# Altium integrated library TI Power Management Battery Management.IntLib: 949 symbols (part 61 of 62)
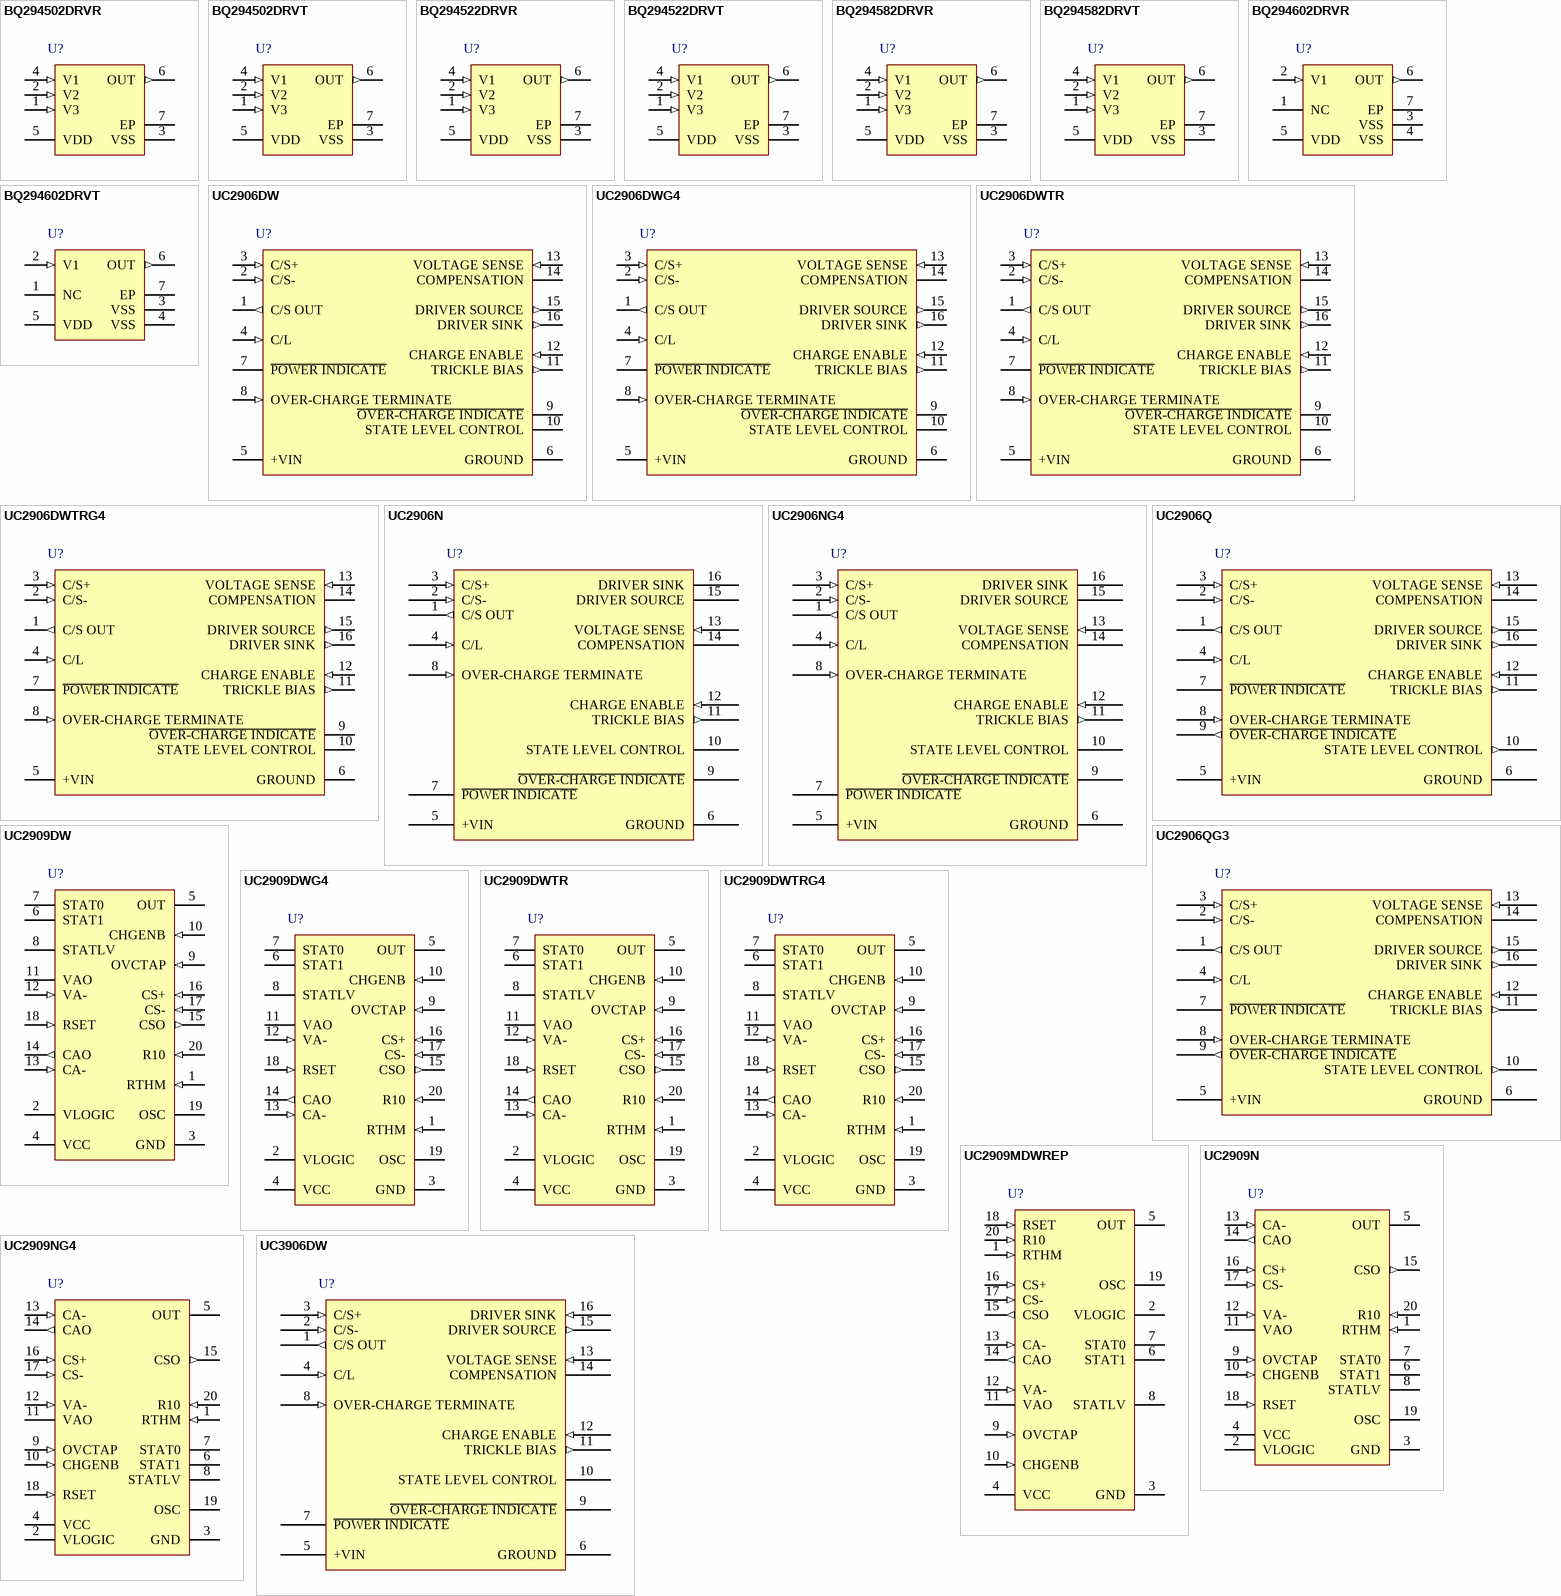
[diagram p94: symbols BQ294502DRVR to UC3906DW]

## UC2909DWG4
designator U?
Switch-Mode Lead-Acid Battery Charger with Differential Current Sense, -40 to 85 degC, 20-pin SOIC (DW), Green (RoHS & no Sb/Br); PartNumber: UC2909DWG4; Manufacturer: Texas Instruments; Lead Acid: Y; Li-Ion: N; SubFamily: Battery Charge Management; PackageVersion: revG, Jan-2011; PackageReference: DW20; PackageDescription: 20-Pin Plastic Small Outline Integrated Circuit, 12.8 x 7.5 mm, Pitch 1.27 mm Pitch; Supplier 1: Digi-Key; Supplier Part Number 1: UC2909DWG4-ND; Supplier 2: Newark; Supplier Part Number 2: 66K4914; Supplier 3: Mouser; Supplier Part Number 3: 595-UC2909DWG4; Eco-Plan: Green (RoHS & no Sb/Br); Li-Polymer: N; NiCd: N; NiMH: N; Over Voltage Protection: N; Mounting Technology: Surface Mount; Code_JEDEC: MS-013-AC; ComponentLink1Description: Datasheet; ComponentLink1URL: http://www.ti.com/general/docs/lit/getliterature.tsp?genericPartNumber=UC2909&fileType=pdf
footprint DW20_N (SOIC, 20-Leads, Body 12.8x7.5mm, Pitch 1.27mm, IPC Medium Density)
footprint DW20_L (SOIC, 20-Leads, Body 12.8x7.5mm, Pitch 1.27mm, IPC High Density)
footprint DW20_M (SOIC, 20-Leads, Body 12.8x7.5mm, Pitch 1.27mm, IPC Low Density)
pins: 1 RTHM (in) "A 10k thermistor is connected to ground and is thermally connected to the battery. The resistance will vary exponentially over temperature and its change is used to vary the internal 2.3V reference by -3.9mV/degreesC. The (See Datasheet)", 2 VLOGIC (power) "The precision reference voltage. It should be bypassed with a 0.1uF capacitor.", 3 GND (power) "The reference point for the internal reference, all thresholds, and the return for the remainder of the device. The output sink transistor is wired directly to this pin.", 4 VCC (power) "The input voltage to the chip. The chip is operational between 7.5V and 40V and should be bypassed with a 1uF capacitor. A typical ICC vs. temperature is shown in Figure 1.", 5 OUT (power) "The output of the PWM driver which consists of  an open collector output transistor with 100mA sink capability.", 6 STAT1 (oc) "This open collector pin is the second decode bit sed to decode the charge states.", 7 STAT0 (oc) "This open collector pin is the first decode bit used to decode the charge states.", 8 STATLV (oc) "This bit is high when the charger is in the float state.", 9 OVCTAP (in) "The overcharge current taper pin detects when the output current has tapered to the float threshold in the overcharge state.", 10 CHGENB (in) "The input to a comparator that detects when battery voltage is low and places the charger in a trickle charge state. The charge enable comparator makes the output of the voltage error amplifier a high impedance while forcing (See Datasheet)", 11 VAO (hiz) "The output of the voltage error amplifier. The upper output clamp voltage of this amplifier is 5V.", 12 VA- (in) "The inverting input to the voltage error amplifier.", 13 CA- (in) "The inverting input to the current error amplifier.", 14 CAO (out) "The output of the current error amplifier which is internally clamped to approximately 4V. It is internally connected to the inverting input of the PWM comparator.", 15 CSO (out) "The output of the current sense amplifier which is internally clamped to approximately 5.7V.", 16 CS+ (in) "The inverting and non-inverting inputs to the current sense amplifier. This amplifier has a fixed gain of five and a common-mode voltage range of from -250mV to +VCC.", 17 CS- (in) "The inverting and non-inverting inputs to the current sense amplifier. This amplifier has a fixed gain of five and a common-mode voltage range of from -250mV to +VCC.", 18 RSET (in) "A resistor to ground programs the oscillator charge current and the trickle control current for the oscillator ramp.The oscillator charge current is approximately 1.75 / RSET. The trickle control current (ITRCK_CONTROL) is (See Datasheet)", 19 OSC "The oscillator ramp pin which has a capacitor (CT) to ground. The ramp oscillates between approximately 1.0V to 3.0V and the frequency is approximated by:frequency=1 / (1.2*CT*Rset)", 20 R10 (in) "Input used to establish a differential voltage corresponding to the temperature of the thermistor. Connect a 10k resistor to ground from this point."

## UC2909DWTR
designator U?
Switch-Mode Lead-Acid Battery Charger with Differential Current Sense, -40 to 85 degC, 20-pin SOIC (DW), Green (RoHS & no Sb/Br); PartNumber: UC2909DWTR; Manufacturer: Texas Instruments; Lead Acid: Y; Li-Ion: N; SubFamily: Battery Charge Management; PackageVersion: revG, Jan-2011; PackageReference: DW20; PackageDescription: 20-Pin Plastic Small Outline Integrated Circuit, 12.8 x 7.5 mm, Pitch 1.27 mm Pitch; Supplier 1: Digi-Key; Supplier Part Number 1: UC2909DWTR-ND; Supplier 2: Newark; Supplier Part Number 2: 77C3104; Supplier 3: Mouser; Supplier Part Number 3: 595-UC2909DWTR; Eco-Plan: Green (RoHS & no Sb/Br); Li-Polymer: N; NiCd: N; NiMH: N; Over Voltage Protection: N; Mounting Technology: Surface Mount; Code_JEDEC: MS-013-AC; ComponentLink1Description: Datasheet; ComponentLink1URL: http://www.ti.com/general/docs/lit/getliterature.tsp?genericPartNumber=UC2909&fileType=pdf
footprint DW20_N (SOIC, 20-Leads, Body 12.8x7.5mm, Pitch 1.27mm, IPC Medium Density)
footprint DW20_L (SOIC, 20-Leads, Body 12.8x7.5mm, Pitch 1.27mm, IPC High Density)
footprint DW20_M (SOIC, 20-Leads, Body 12.8x7.5mm, Pitch 1.27mm, IPC Low Density)
pins: 1 RTHM (in) "A 10k thermistor is connected to ground and is thermally connected to the battery. The resistance will vary exponentially over temperature and its change is used to vary the internal 2.3V reference by -3.9mV/degreesC. The (See Datasheet)", 2 VLOGIC (power) "The precision reference voltage. It should be bypassed with a 0.1uF capacitor.", 3 GND (power) "The reference point for the internal reference, all thresholds, and the return for the remainder of the device. The output sink transistor is wired directly to this pin.", 4 VCC (power) "The input voltage to the chip. The chip is operational between 7.5V and 40V and should be bypassed with a 1uF capacitor. A typical ICC vs. temperature is shown in Figure 1.", 5 OUT (power) "The output of the PWM driver which consists of  an open collector output transistor with 100mA sink capability.", 6 STAT1 (oc) "This open collector pin is the second decode bit sed to decode the charge states.", 7 STAT0 (oc) "This open collector pin is the first decode bit used to decode the charge states.", 8 STATLV (oc) "This bit is high when the charger is in the float state.", 9 OVCTAP (in) "The overcharge current taper pin detects when the output current has tapered to the float threshold in the overcharge state.", 10 CHGENB (in) "The input to a comparator that detects when battery voltage is low and places the charger in a trickle charge state. The charge enable comparator makes the output of the voltage error amplifier a high impedance while forcing (See Datasheet)", 11 VAO (hiz) "The output of the voltage error amplifier. The upper output clamp voltage of this amplifier is 5V.", 12 VA- (in) "The inverting input to the voltage error amplifier.", 13 CA- (in) "The inverting input to the current error amplifier.", 14 CAO (out) "The output of the current error amplifier which is internally clamped to approximately 4V. It is internally connected to the inverting input of the PWM comparator.", 15 CSO (out) "The output of the current sense amplifier which is internally clamped to approximately 5.7V.", 16 CS+ (in) "The inverting and non-inverting inputs to the current sense amplifier. This amplifier has a fixed gain of five and a common-mode voltage range of from -250mV to +VCC.", 17 CS- (in) "The inverting and non-inverting inputs to the current sense amplifier. This amplifier has a fixed gain of five and a common-mode voltage range of from -250mV to +VCC.", 18 RSET (in) "A resistor to ground programs the oscillator charge current and the trickle control current for the oscillator ramp.The oscillator charge current is approximately 1.75 / RSET. The trickle control current (ITRCK_CONTROL) is (See Datasheet)", 19 OSC "The oscillator ramp pin which has a capacitor (CT) to ground. The ramp oscillates between approximately 1.0V to 3.0V and the frequency is approximated by:frequency=1 / (1.2*CT*Rset)", 20 R10 (in) "Input used to establish a differential voltage corresponding to the temperature of the thermistor. Connect a 10k resistor to ground from this point."

## UC2909DWTRG4
designator U?
Switch-Mode Lead-Acid Battery Charger with Differential Current Sense, -40 to 85 degC, 20-pin SOIC (DW), Green (RoHS & no Sb/Br); PartNumber: UC2909DWTRG4; Manufacturer: Texas Instruments; Lead Acid: Y; Li-Ion: N; SubFamily: Battery Charge Management; PackageVersion: revG, Jan-2011; PackageReference: DW20; PackageDescription: 20-Pin Plastic Small Outline Integrated Circuit, 12.8 x 7.5 mm, Pitch 1.27 mm Pitch; Supplier 1: Digi-Key; Supplier Part Number 1: UC2909DWTRG4-ND; Supplier 2: Newark; Supplier Part Number 2: 54K2298; Supplier 3: Mouser; Supplier Part Number 3: 595-UC2909DWTRG4; Eco-Plan: Green (RoHS & no Sb/Br); Li-Polymer: N; NiCd: N; NiMH: N; Over Voltage Protection: N; Mounting Technology: Surface Mount; Code_JEDEC: MS-013-AC; ComponentLink1Description: Datasheet; ComponentLink1URL: http://www.ti.com/general/docs/lit/getliterature.tsp?genericPartNumber=UC2909&fileType=pdf
footprint DW20_N (SOIC, 20-Leads, Body 12.8x7.5mm, Pitch 1.27mm, IPC Medium Density)
footprint DW20_L (SOIC, 20-Leads, Body 12.8x7.5mm, Pitch 1.27mm, IPC High Density)
footprint DW20_M (SOIC, 20-Leads, Body 12.8x7.5mm, Pitch 1.27mm, IPC Low Density)
pins: 1 RTHM (in) "A 10k thermistor is connected to ground and is thermally connected to the battery. The resistance will vary exponentially over temperature and its change is used to vary the internal 2.3V reference by -3.9mV/degreesC. The (See Datasheet)", 2 VLOGIC (power) "The precision reference voltage. It should be bypassed with a 0.1uF capacitor.", 3 GND (power) "The reference point for the internal reference, all thresholds, and the return for the remainder of the device. The output sink transistor is wired directly to this pin.", 4 VCC (power) "The input voltage to the chip. The chip is operational between 7.5V and 40V and should be bypassed with a 1uF capacitor. A typical ICC vs. temperature is shown in Figure 1.", 5 OUT (power) "The output of the PWM driver which consists of  an open collector output transistor with 100mA sink capability.", 6 STAT1 (oc) "This open collector pin is the second decode bit sed to decode the charge states.", 7 STAT0 (oc) "This open collector pin is the first decode bit used to decode the charge states.", 8 STATLV (oc) "This bit is high when the charger is in the float state.", 9 OVCTAP (in) "The overcharge current taper pin detects when the output current has tapered to the float threshold in the overcharge state.", 10 CHGENB (in) "The input to a comparator that detects when battery voltage is low and places the charger in a trickle charge state. The charge enable comparator makes the output of the voltage error amplifier a high impedance while forcing (See Datasheet)", 11 VAO (hiz) "The output of the voltage error amplifier. The upper output clamp voltage of this amplifier is 5V.", 12 VA- (in) "The inverting input to the voltage error amplifier.", 13 CA- (in) "The inverting input to the current error amplifier.", 14 CAO (out) "The output of the current error amplifier which is internally clamped to approximately 4V. It is internally connected to the inverting input of the PWM comparator.", 15 CSO (out) "The output of the current sense amplifier which is internally clamped to approximately 5.7V.", 16 CS+ (in) "The inverting and non-inverting inputs to the current sense amplifier. This amplifier has a fixed gain of five and a common-mode voltage range of from -250mV to +VCC.", 17 CS- (in) "The inverting and non-inverting inputs to the current sense amplifier. This amplifier has a fixed gain of five and a common-mode voltage range of from -250mV to +VCC.", 18 RSET (in) "A resistor to ground programs the oscillator charge current and the trickle control current for the oscillator ramp.The oscillator charge current is approximately 1.75 / RSET. The trickle control current (ITRCK_CONTROL) is (See Datasheet)", 19 OSC "The oscillator ramp pin which has a capacitor (CT) to ground. The ramp oscillates between approximately 1.0V to 3.0V and the frequency is approximated by:frequency=1 / (1.2*CT*Rset)", 20 R10 (in) "Input used to establish a differential voltage corresponding to the temperature of the thermistor. Connect a 10k resistor to ground from this point."

## UC2909MDWREP
designator U?
Enhanced Product Switch-Mode Lead-Acid Battery Charger with Differential Current Sense, -55 to 125 degC, 20-pin SOIC (DW), Green (RoHS & no Sb/Br); PartNumber: UC2909MDWREP; Manufacturer: Texas Instruments; Lead Acid: Y; Li-Ion: N; SubFamily: 6Battery Charge Management; DatasheetVersion: SLUSA72; PackageVersion: revG, Jan-2011; PackageReference: DW20; PackageDescription: 20-Pin Plastic Small Outline Integrated Circuit, 12.8 x 7.5 mm, Pitch 1.27 mm Pitch; Supplier 1: Digi-Key; Supplier Part Number 1: 296-27721-2-ND; Supplier 2: Digi-Key; Supplier Part Number 2: 296-27721-1-ND; Supplier 3: Digi-Key; Supplier Part Number 3: 296-27721-6-ND; Supplier 4: Newark; Supplier Part Number 4: 12T2261; Supplier 5: Mouser; Supplier Part Number 5: 595-UC2909MDWREP; Eco-Plan: Green (RoHS & no Sb/Br); Li-Polymer: N; NiCd: N; NiMH: N; Over Voltage Protection: N; Mounting Technology: Surface Mount; Code_JEDEC: MS-013-AC; ComponentLink1Description: Datasheet; ComponentLink1URL: http://www.ti.com/general/docs/lit/getliterature.tsp?genericPartNumber=UC2909-EP&fileType=pdf
footprint DW20_N (SOIC, 20-Leads, Body 12.8x7.5mm, Pitch 1.27mm, IPC Medium Density)
footprint DW20_L (SOIC, 20-Leads, Body 12.8x7.5mm, Pitch 1.27mm, IPC High Density)
footprint DW20_M (SOIC, 20-Leads, Body 12.8x7.5mm, Pitch 1.27mm, IPC Low Density)
pins: 1 RTHM (in) "A 10-K ohm thermistor is connected to ground and is thermally connected to the battery. The resistance will vary exponentially over temperature and its change is used to vary the internal 2.3-V reference by -3.9 mV/degC. The (See Datasheet)", 2 VLOGIC (power) "The precision reference voltage. It should be bypassed with a 0.1-uF capacitor.", 3 GND (power) "The reference point for the internal reference, all thresholds, and the return for the remainder of the device.The output sink transistor is wired directly to this pin.", 4 VCC (power) "The input voltage to the chip. The chip is operational between 7.5 V and 40 V and should be bypassed with a 1-uF capacitor. A typical ICC vs. temperature is shown in Figure 1.", 5 OUT (power) "The output of the PWM driver which consists of an open collector output transistor with 100-mA sink capability.", 6 STAT1 (oc) "This open collector pin is the second decode bit used to decode the charge states.", 7 STAT0 (oc) "This open collector pin is the first decode bit used to decode the charge states.", 8 STATLV (oc) "This bit is high when the charger is in the float state.", 9 OVCTAP (in) "The overcharge current taper pin detects when the output current has tapered to the float threshold in the overcharge state.", 10 CHGENB (in) "The input to a comparator that detects when battery voltage is low and places the charger in a trickle charge state. The charge enable comparator makes the output of the voltage error amplifier a high impedance while forcing (See Datasheet)", 11 VAO (hiz) "The output of the voltage error amplifier. The upper output clamp voltage of this amplifier is 5 V.", 12 VA- (in) "The inverting input to the voltage error amplifier.", 13 CA- (in) "The inverting input to the current error amplifier.", 14 CAO (out) "The output of the current error amplifier which is internally clamped to approximately 4 V. It is internally connected to the inverting input of the PWM comparator.", 15 CSO (out) "The output of the current sense amplifier which is internally clamped to approximately 5.7 V.", 16 CS+ (in) "The inverting and non-inverting inputs to the current sense amplifier. This amplifier has a fixed gain of five and a common-mode voltage range of from -250 mV to VCC.", 17 CS- (in) "The inverting and non-inverting inputs to the current sense amplifier. This amplifier has a fixed gain of five and a common-mode voltage range of from -250 mV to VCC.", 18 RSET (in) "A resistor to ground programs the oscillator charge current and the trickle control current for the oscillator ramp.", 19 OSC "The oscillator ramp pin which has a capacitor (CT) to ground. The ramp oscillates between approximately 1 V to 3 V and the frequency is approximated by:", 20 R10 (in) "Input used to establish a differential voltage corresponding to the temperature of the thermistor. Connect a 10-K ohm resistor to ground from this point."

## UC2909N
designator U?
Switch-Mode Lead-Acid Battery Charger with Differential Current Sense, -40 to 85 degC, 20-pin PDIP (N), Green (RoHS & no Sb/Br); PartNumber: UC2909N; Manufacturer: Texas Instruments; Lead Acid: Y; SubFamily: Battery Charge Management; PackageVersion: revE, Dec-2002; PackageReference: N20; PackageDescription: 20-Pin Plastic Dual-In-Line Package, Row Spacing 7.62 mm, Pitch 2.54 mm; Supplier 1: Digi-Key; Supplier Part Number 1: 296-2229-5-ND; Supplier 2: Newark; Supplier Part Number 2: 77C3105; Supplier 3: Mouser; Supplier Part Number 3: 595-UC2909N; Eco-Plan: Green (RoHS & no Sb/Br); Li-Ion: N; Li-Polymer: N; NiCd: N; NiMH: N; Over Voltage Protection: N; Mounting Technology: Through Hole; Code_JEDEC: MS-001-AC*; ComponentLink1Description: Datasheet; ComponentLink1URL: http://www.ti.com/general/docs/lit/getliterature.tsp?genericPartNumber=UC2909&fileType=pdf
footprint N20 (DIP, 20-Leads, Row Spacing 7.62mm, Pitch 2.54mm, Body 25.4x6.4mm)
pins: 1 RTHM (in) "A 10k thermistor is thermally connected to the battery. The resistance will connected to ground and is vary exponentially over temperature and its change is used to vary the internal 2.3V reference by -3.9mV/degreesC.The (See Datasheet)", 2 VLOGIC (power) "The precision reference voltage. It should be bypassed with a 0.1uF capacitor.", 3 GND (power) "The reference point for the internal reference, all thresholds, and the return for the remainder of the device. The output sink transistor is wired directly to this pin.", 4 VCC (power) "The input voltage to the chip. The chip is operational between 7.5V and 40V and should be bypassed with a 1uF capacitor. A typical ICC vs. temperature is shown in Figure 1.", 5 OUT (power) "The output of the PWM driver which consists of an open collector output transistor with 100mA sink capability.", 6 STAT1 (oc) "This open collector pin is the first decode bit used to decode the charge states.", 7 STAT0 (oc) "This open collector pin is the first decode bit used to decode the charge states.", 8 STATLV (oc) "This bit is high when the charger is in the float state.", 9 OVCTAP (in) "The overcharge current taper pin detects when the output current has tapered to the float threshold in the overcharge state.", 10 CHGENB (in) "The input to a comparator that detects when battery voltage is low and places the charger in a trickle charge state. The charge enable comparator makes the output of the voltage error amplifier a high impedance while forcing (See Datasheet)", 11 VAO (hiz) "The output of the voltage error amplifier. The upper output clamp voltage of this amplifier is 5V.", 12 VA- (in) "The inverting input to the voltage error amplifier.", 13 CA- (in) "The inverting input to the current error amplifier.", 14 CAO (out) "The output of the current error amplifier which is internally clamped to approximately 4V. It is internally connected to the inverting input of the PWM comparator.", 15 CSO (out) "The output of the current sense amplifier which is internally clamped to approximately 5.7V.", 16 CS+ (in) "The inverting and non-inverting inputs to the current sense amplifier. This amplifier has a fixed gain of five and a common-mode voltage range of from -250mV to +VCC.", 17 CS- (in) "The inverting and non-inverting inputs to the current sense amplifier. This amplifier has a fixed gain of five and a common-mode voltage range of from -250mV to +VCC.", 18 RSET (in) "A resistor to ground programs the oscillator charge current and the trickle control current for the oscillator ramp.The oscillator charge current is approximately 1.75/RSET.The trickle control current (ITRCK_CONTROL) is (See Datasheet)", 19 OSC "The oscillator ramp pin which has a capacitor (CT) to ground. The ramp oscillates between approximately 1.0V to 3.0V and the frequency is approximated by:frequency =1/(1.2*CT*RSET)", 20 R10 (in) "Input used to establish a differential voltage corresponding to the temperature of the thermistor. Connect a 10k resistor to ground from this point."

## UC2909NG4
designator U?
Switch-Mode Lead-Acid Battery Charger with Differential Current Sense, -40 to 85 degC, 20-pin PDIP (N), Green (RoHS & no Sb/Br); PartNumber: UC2909NG4; Manufacturer: Texas Instruments; Lead Acid: Y; SubFamily: Battery Charge Management; PackageVersion: revE, Dec-2002; PackageReference: N20; PackageDescription: 20-Pin Plastic Dual-In-Line Package, Row Spacing 7.62 mm, Pitch 2.54 mm; Supplier 1: Digi-Key; Supplier Part Number 1: UC2909NG4-ND; Supplier 2: Newark; Supplier Part Number 2: 30M6270; Supplier 3: Mouser; Supplier Part Number 3: 595-UC2909NG4; Eco-Plan: Green (RoHS & no Sb/Br); Li-Ion: N; Li-Polymer: N; NiCd: N; NiMH: N; Over Voltage Protection: N; Mounting Technology: Through Hole; Code_JEDEC: MS-001-AC*; ComponentLink1Description: Datasheet; ComponentLink1URL: http://www.ti.com/general/docs/lit/getliterature.tsp?genericPartNumber=UC2909&fileType=pdf
footprint N20 (DIP, 20-Leads, Row Spacing 7.62mm, Pitch 2.54mm, Body 25.4x6.4mm)
pins: 1 RTHM (in) "A 10k thermistor is thermally connected to the battery. The resistance will connected to ground and is vary exponentially over temperature and its change is used to vary the internal 2.3V reference by -3.9mV/degreesC.The (See Datasheet)", 2 VLOGIC (power) "The precision reference voltage. It should be bypassed with a 0.1uF capacitor.", 3 GND (power) "The reference point for the internal reference, all thresholds, and the return for the remainder of the device. The output sink transistor is wired directly to this pin.", 4 VCC (power) "The input voltage to the chip. The chip is operational between 7.5V and 40V and should be bypassed with a 1uF capacitor. A typical ICC vs. temperature is shown in Figure 1.", 5 OUT (power) "The output of the PWM driver which consists of an open collector output transistor with 100mA sink capability.", 6 STAT1 (oc) "This open collector pin is the first decode bit used to decode the charge states.", 7 STAT0 (oc) "This open collector pin is the first decode bit used to decode the charge states.", 8 STATLV (oc) "This bit is high when the charger is in the float state.", 9 OVCTAP (in) "The overcharge current taper pin detects when the output current has tapered to the float threshold in the overcharge state.", 10 CHGENB (in) "The input to a comparator that detects when battery voltage is low and places the charger in a trickle charge state. The charge enable comparator makes the output of the voltage error amplifier a high impedance while forcing (See Datasheet)", 11 VAO (hiz) "The output of the voltage error amplifier. The upper output clamp voltage of this amplifier is 5V.", 12 VA- (in) "The inverting input to the voltage error amplifier.", 13 CA- (in) "The inverting input to the current error amplifier.", 14 CAO (out) "The output of the current error amplifier which is internally clamped to approximately 4V. It is internally connected to the inverting input of the PWM comparator.", 15 CSO (out) "The output of the current sense amplifier which is internally clamped to approximately 5.7V.", 16 CS+ (in) "The inverting and non-inverting inputs to the current sense amplifier. This amplifier has a fixed gain of five and a common-mode voltage range of from -250mV to +VCC.", 17 CS- (in) "The inverting and non-inverting inputs to the current sense amplifier. This amplifier has a fixed gain of five and a common-mode voltage range of from -250mV to +VCC.", 18 RSET (in) "A resistor to ground programs the oscillator charge current and the trickle control current for the oscillator ramp.The oscillator charge current is approximately 1.75/RSET.The trickle control current (ITRCK_CONTROL) is (See Datasheet)", 19 OSC "The oscillator ramp pin which has a capacitor (CT) to ground. The ramp oscillates between approximately 1.0V to 3.0V and the frequency is approximated by:frequency =1/(1.2*CT*RSET)", 20 R10 (in) "Input used to establish a differential voltage corresponding to the temperature of the thermistor. Connect a 10k resistor to ground from this point."

## UC3906DW
designator U?
Linear Lead-Acid Battery Charger, -20 to 70 degC, 16-pin SOIC (DW), Green (RoHS & no Sb/Br); PartNumber: UC3906DW; Manufacturer: Texas Instruments; Lead Acid: Y; Li-Ion: N; SubFamily: Battery Charge Management; DatasheetVersion: SLUS186C; PackageVersion: revG, Jan-2011; PackageReference: DW16; PackageDescription: 16-Pin Small Outline Integrated Circuit, 10.3 x 7.5 mm, Pitch 1.27 mm Pitch; Supplier 1: Digi-Key; Supplier Part Number 1: 296-2230-5-ND; Supplier 2: Newark; Supplier Part Number 2: 74K4023; Supplier 3: Mouser; Supplier Part Number 3: 595-UC3906DW; Eco-Plan: Green (RoHS & no Sb/Br); Li-Polymer: N; NiCd: N; NiMH: N; Over Voltage Protection: N; Mounting Technology: Surface Mount; Code_JEDEC: MS-013-AA; ComponentLink1Description: Datasheet; ComponentLink1URL: http://www.ti.com/general/docs/lit/getliterature.tsp?genericPartNumber=UC3906&fileType=pdf
footprint DW16_N (SOIC, 16-Leads, Body 10.3x7.5mm, Pitch 1.27mm, IPC Medium Density)
footprint DW16_L (SOIC, 16-Leads, Body 10.3x7.5mm, Pitch 1.27mm, IPC High Density)
footprint DW16_M (SOIC, 16-Leads, Body 10.3x7.5mm, Pitch 1.27mm, IPC Low Density)
pins: 1 C/S OUT (out), 2 C/S- (in), 3 C/S+ (in), 4 C/L (in), 5 +VIN (power), 6 GROUND (power), 7 ~{POWER INDICATE} (oc), 8 OVER-CHARGE TERMINATE (in), 9 ~{OVER-CHARGE INDICATE} (oc), 10 STATE LEVEL CONTROL (oc), 11 TRICKLE BIAS (out), 12 CHARGE ENABLE (in), 13 VOLTAGE SENSE (in), 14 COMPENSATION, 15 DRIVER SOURCE (out), 16 DRIVER SINK (in)

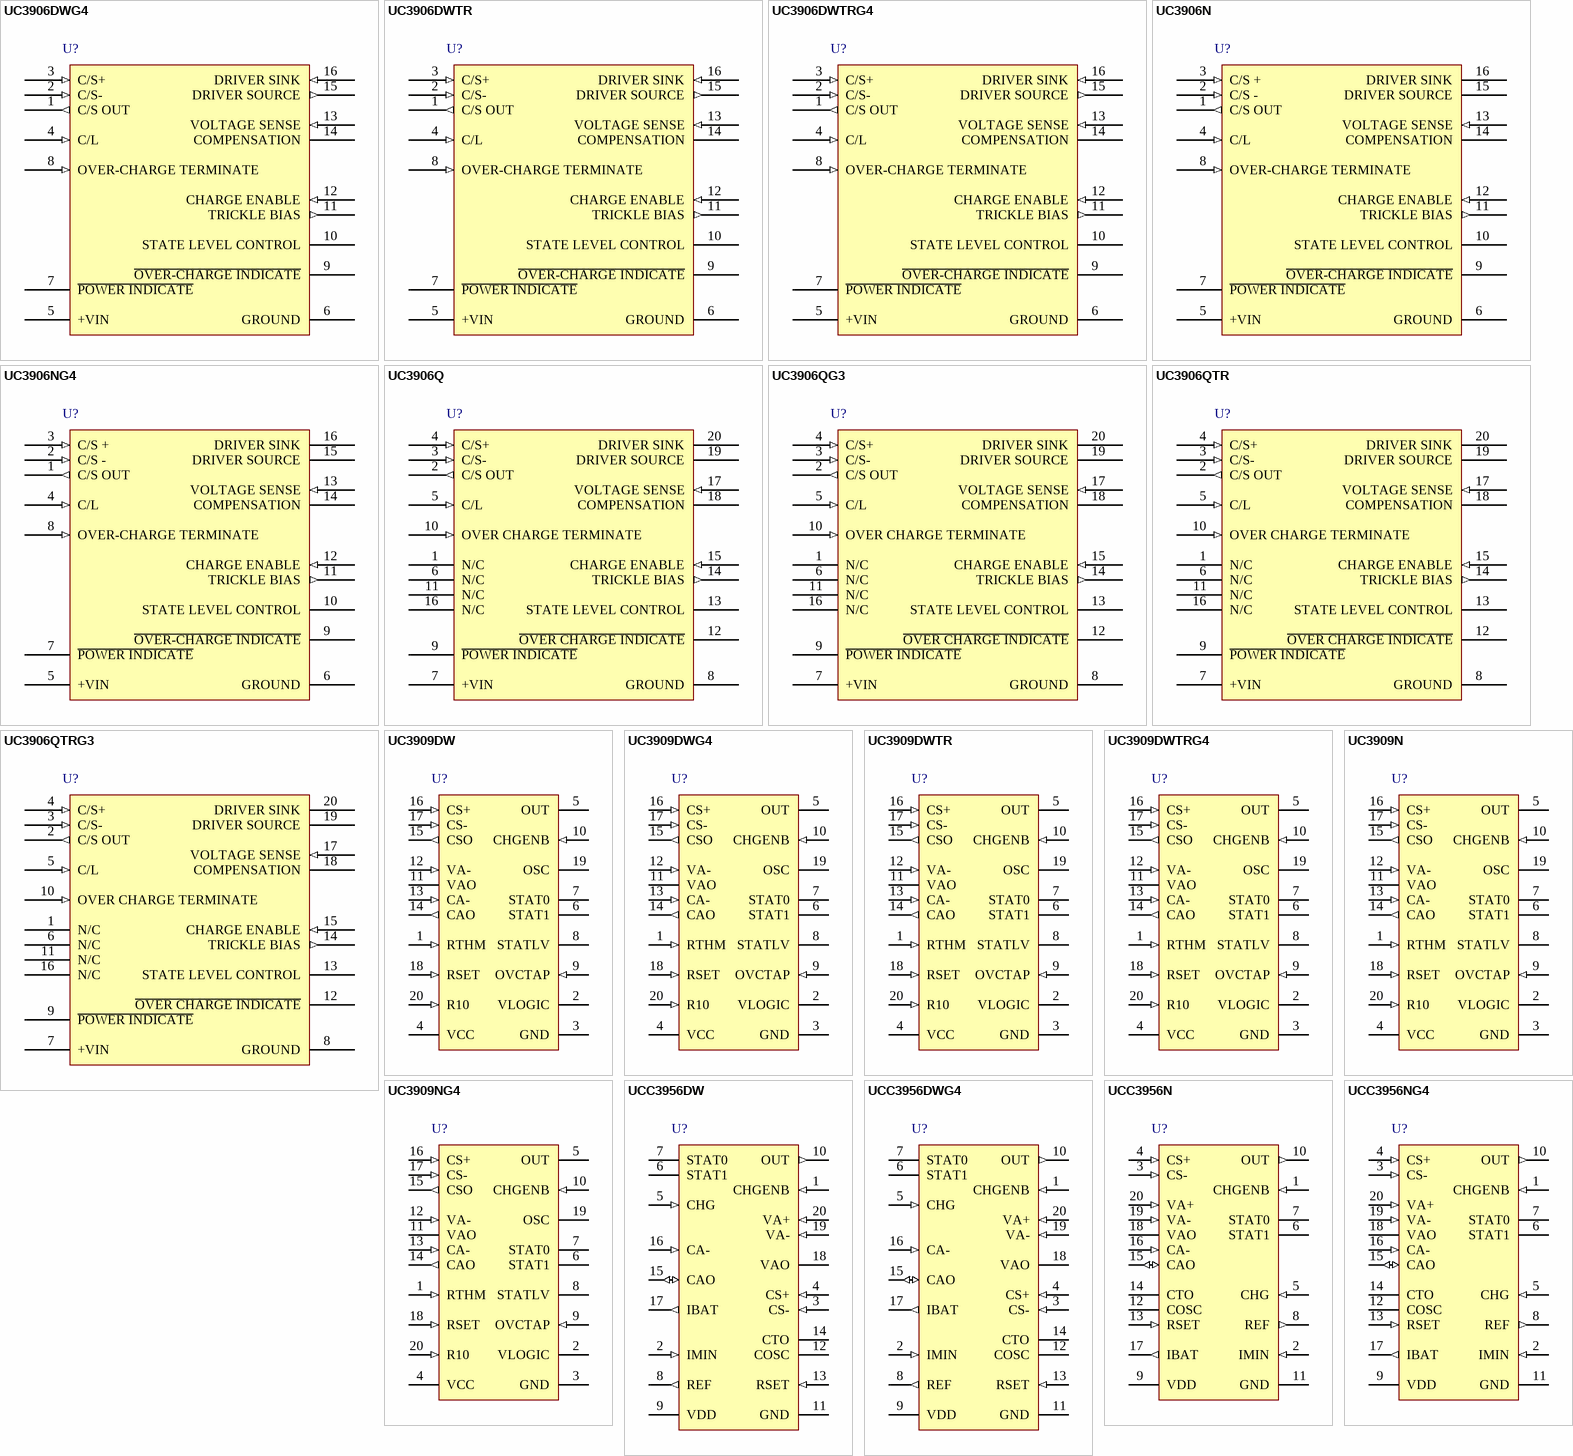
[diagram p34: symbols UC3906DWG4 to UCC3956NG4]

## UC3906DWG4
designator U?
Linear Lead-Acid Battery Charger, -20 to 70 degC, 16-pin SOIC (DW), Green (RoHS & no Sb/Br); PartNumber: UC3906DWG4; Manufacturer: Texas Instruments; Lead Acid: Y; Li-Ion: N; SubFamily: Battery Charge Management; DatasheetVersion: SLUS186C; PackageVersion: revG, Jan-2011; PackageReference: DW16; PackageDescription: 16-Pin Small Outline Integrated Circuit, 10.3 x 7.5 mm, Pitch 1.27 mm Pitch; Supplier 1: Digi-Key; Supplier Part Number 1: UC3906DWG4-ND; Supplier 2: Newark; Supplier Part Number 2: 30M6271; Supplier 3: Mouser; Supplier Part Number 3: 595-UC3906DWG4; Eco-Plan: Green (RoHS & no Sb/Br); Li-Polymer: N; NiCd: N; NiMH: N; Over Voltage Protection: N; Mounting Technology: Surface Mount; Code_JEDEC: MS-013-AA; ComponentLink1Description: Datasheet; ComponentLink1URL: http://www.ti.com/general/docs/lit/getliterature.tsp?genericPartNumber=UC3906&fileType=pdf
footprint DW16_N (SOIC, 16-Leads, Body 10.3x7.5mm, Pitch 1.27mm, IPC Medium Density)
footprint DW16_L (SOIC, 16-Leads, Body 10.3x7.5mm, Pitch 1.27mm, IPC High Density)
footprint DW16_M (SOIC, 16-Leads, Body 10.3x7.5mm, Pitch 1.27mm, IPC Low Density)
pins: 1 C/S OUT (out), 2 C/S- (in), 3 C/S+ (in), 4 C/L (in), 5 +VIN (power), 6 GROUND (power), 7 ~{POWER INDICATE} (oc), 8 OVER-CHARGE TERMINATE (in), 9 ~{OVER-CHARGE INDICATE} (oc), 10 STATE LEVEL CONTROL (oc), 11 TRICKLE BIAS (out), 12 CHARGE ENABLE (in), 13 VOLTAGE SENSE (in), 14 COMPENSATION, 15 DRIVER SOURCE (out), 16 DRIVER SINK (in)

## UC3906DWTR
designator U?
Linear Lead-Acid Battery Charger, -20 to 70 degC, 16-pin SOIC (DW), Green (RoHS & no Sb/Br); PartNumber: UC3906DWTR; Manufacturer: Texas Instruments; Lead Acid: Y; Li-Ion: N; SubFamily: Battery Charge Management; DatasheetVersion: SLUS186C; PackageVersion: revG, Jan-2011; PackageReference: DW16; PackageDescription: 16-Pin Small Outline Integrated Circuit, 10.3 x 7.5 mm, Pitch 1.27 mm Pitch; Supplier 1: Digi-Key; Supplier Part Number 1: UC3906DWTR-ND; Supplier 2: Newark; Supplier Part Number 2: 77C3469; Supplier 3: Mouser; Supplier Part Number 3: 595-UC3906DWTR; Eco-Plan: Green (RoHS & no Sb/Br); Li-Polymer: N; NiCd: N; NiMH: N; Over Voltage Protection: N; Mounting Technology: Surface Mount; Code_JEDEC: MS-013-AA; ComponentLink1Description: Datasheet; ComponentLink1URL: http://www.ti.com/general/docs/lit/getliterature.tsp?genericPartNumber=UC3906&fileType=pdf
footprint DW16_N (SOIC, 16-Leads, Body 10.3x7.5mm, Pitch 1.27mm, IPC Medium Density)
footprint DW16_L (SOIC, 16-Leads, Body 10.3x7.5mm, Pitch 1.27mm, IPC High Density)
footprint DW16_M (SOIC, 16-Leads, Body 10.3x7.5mm, Pitch 1.27mm, IPC Low Density)
pins: 1 C/S OUT (out), 2 C/S- (in), 3 C/S+ (in), 4 C/L (in), 5 +VIN (power), 6 GROUND (power), 7 ~{POWER INDICATE} (oc), 8 OVER-CHARGE TERMINATE (in), 9 ~{OVER-CHARGE INDICATE} (oc), 10 STATE LEVEL CONTROL (oc), 11 TRICKLE BIAS (out), 12 CHARGE ENABLE (in), 13 VOLTAGE SENSE (in), 14 COMPENSATION, 15 DRIVER SOURCE (out), 16 DRIVER SINK (in)

## UC3906DWTRG4
designator U?
Linear Lead-Acid Battery Charger, -20 to 70 degC, 16-pin SOIC (DW), Green (RoHS & no Sb/Br); PartNumber: UC3906DWTRG4; Manufacturer: Texas Instruments; Lead Acid: Y; Li-Ion: N; SubFamily: Battery Charge Management; DatasheetVersion: SLUS186C; PackageVersion: revG, Jan-2011; PackageReference: DW16; PackageDescription: 16-Pin Small Outline Integrated Circuit, 10.3 x 7.5 mm, Pitch 1.27 mm Pitch; Supplier 1: Digi-Key; Supplier Part Number 1: UC3906DWTRG4-ND; Supplier 2: Newark; Supplier Part Number 2: 63K6765; Supplier 3: Mouser; Supplier Part Number 3: 595-UC3906DWTRG4; Eco-Plan: Green (RoHS & no Sb/Br); Li-Polymer: N; NiCd: N; NiMH: N; Over Voltage Protection: N; Mounting Technology: Surface Mount; Code_JEDEC: MS-013-AA; ComponentLink1Description: Datasheet; ComponentLink1URL: http://www.ti.com/general/docs/lit/getliterature.tsp?genericPartNumber=UC3906&fileType=pdf
footprint DW16_N (SOIC, 16-Leads, Body 10.3x7.5mm, Pitch 1.27mm, IPC Medium Density)
footprint DW16_L (SOIC, 16-Leads, Body 10.3x7.5mm, Pitch 1.27mm, IPC High Density)
footprint DW16_M (SOIC, 16-Leads, Body 10.3x7.5mm, Pitch 1.27mm, IPC Low Density)
pins: 1 C/S OUT (out), 2 C/S- (in), 3 C/S+ (in), 4 C/L (in), 5 +VIN (power), 6 GROUND (power), 7 ~{POWER INDICATE} (oc), 8 OVER-CHARGE TERMINATE (in), 9 ~{OVER-CHARGE INDICATE} (oc), 10 STATE LEVEL CONTROL (oc), 11 TRICKLE BIAS (out), 12 CHARGE ENABLE (in), 13 VOLTAGE SENSE (in), 14 COMPENSATION, 15 DRIVER SOURCE (out), 16 DRIVER SINK (in)

## UC3906N
designator U?
Linear Lead-Acid Battery Charger, -20 to 70 degC, 16-pin PDIP (N), Green (RoHS & no Sb/Br); PartNumber: UC3906N; Manufacturer: Texas Instruments; Lead Acid: Y; SubFamily: Battery Charge Management; DatasheetVersion: SLUS186C; PackageVersion: revE, Dec-2002; PackageReference: N16; PackageDescription: 16-Pin Plastic Dual-In-Line Package, Row Spacing 7.62 mm, Pitch 2.54 mm; Supplier 1: Digi-Key; Supplier Part Number 1: 296-11621-ND; Supplier 2: Farnell; Supplier Part Number 2: 1755701; Supplier 3: Newark; Supplier Part Number 3: 62K3477; Supplier 4: Mouser; Supplier Part Number 4: 595-UC3906N; Eco-Plan: Green (RoHS & no Sb/Br); Li-Ion: N; Li-Polymer: N; NiCd: N; NiMH: N; Over Voltage Protection: N; Mounting Technology: Through Hole; Code_JEDEC: MS-001*; ComponentLink1Description: Datasheet; ComponentLink1URL: http://www.ti.com/general/docs/lit/getliterature.tsp?genericPartNumber=UC3906&fileType=pdf
footprint N16 (DIP, 16-Leads, Row Spacing 7.62mm, Pitch 2.54mm, Body 19.3x6.4mm)
pins: 1 C/S OUT (out), 2 C/S - (in), 3 C/S + (in), 4 C/L (in), 5 +VIN (power), 6 GROUND (power), 7 ~{POWER INDICATE} (oc), 8 OVER-CHARGE TERMINATE (in), 9 ~{OVER-CHARGE INDICATE} (oc), 10 STATE LEVEL CONTROL (oc), 11 TRICKLE BIAS (out), 12 CHARGE ENABLE (in), 13 VOLTAGE SENSE (in), 14 COMPENSATION, 15 DRIVER SOURCE, 16 DRIVER SINK

## UC3906NG4
designator U?
Linear Lead-Acid Battery Charger, -20 to 70 degC, 16-pin PDIP (N), Green (RoHS & no Sb/Br); PartNumber: UC3906NG4; Manufacturer: Texas Instruments; Lead Acid: Y; SubFamily: Battery Charge Management; DatasheetVersion: SLUS186C; PackageVersion: revE, Dec-2002; PackageReference: N16; PackageDescription: 16-Pin Plastic Dual-In-Line Package, Row Spacing 7.62 mm, Pitch 2.54 mm; Supplier 1: Digi-Key; Supplier Part Number 1: UC3906NG4-ND; Supplier 2: Newark; Supplier Part Number 2: 27M2911; Supplier 3: Mouser; Supplier Part Number 3: 595-UC3906NG4; Eco-Plan: Green (RoHS & no Sb/Br); Li-Ion: N; Li-Polymer: N; NiCd: N; NiMH: N; Over Voltage Protection: N; Mounting Technology: Through Hole; Code_JEDEC: MS-001*; ComponentLink1Description: Datasheet; ComponentLink1URL: http://www.ti.com/general/docs/lit/getliterature.tsp?genericPartNumber=UC3906&fileType=pdf
footprint N16 (DIP, 16-Leads, Row Spacing 7.62mm, Pitch 2.54mm, Body 19.3x6.4mm)
pins: 1 C/S OUT (out), 2 C/S - (in), 3 C/S + (in), 4 C/L (in), 5 +VIN (power), 6 GROUND (power), 7 ~{POWER INDICATE} (oc), 8 OVER-CHARGE TERMINATE (in), 9 ~{OVER-CHARGE INDICATE} (oc), 10 STATE LEVEL CONTROL (oc), 11 TRICKLE BIAS (out), 12 CHARGE ENABLE (in), 13 VOLTAGE SENSE (in), 14 COMPENSATION, 15 DRIVER SOURCE, 16 DRIVER SINK

## UC3906Q
designator U?
Linear Lead-Acid Battery Charger, -20 to 70 degC, 20-pin PLCC (FN), Green (RoHS & no Sb/Br); PartNumber: UC3906Q; Manufacturer: Texas Instruments; Lead Acid: Y; Li-Ion: N; SubFamily: Battery Charge Management; DatasheetVersion: SLUS186C; PackageVersion: revB, Mar-1995; PackageReference: FN20; PackageDescription: 20-Pin Plastic Leaded Chip Carrier, 1.27 mm Pitch; Supplier 1: Digi-Key; Supplier Part Number 1: 296-12193-5-ND; Supplier 2: Newark; Supplier Part Number 2: 24C7413; Supplier 3: Mouser; Supplier Part Number 3: 595-UC3906Q; Eco-Plan: Green (RoHS & no Sb/Br); Li-Polymer: N; NiCd: N; NiMH: N; Over Voltage Protection: N; Mounting Technology: Surface Mount; Code_JEDEC: MS-018; ComponentLink1Description: Datasheet; ComponentLink1URL: http://www.ti.com/general/docs/lit/getliterature.tsp?genericPartNumber=UC3906&fileType=pdf
footprint FN20_N (Leaded Chip Carrier, 20-Leads, Body 9x9mm, Pitch 1.27mm, IPC Medium Density)
footprint FN20_L (Leaded Chip Carrier, 20-Leads, Body 9x9mm, Pitch 1.27mm, IPC High Density)
footprint FN20_M (Leaded Chip Carrier, 20-Leads, Body 9x9mm, Pitch 1.27mm, IPC Low Density)
pins: 1 N/C, 2 C/S OUT (out), 3 C/S- (in), 4 C/S+ (in), 5 C/L (in), 6 N/C, 7 +VIN (power), 8 GROUND (power), 9 ~{POWER INDICATE} (oc), 10 OVER CHARGE TERMINATE (in), 11 N/C, 12 ~{OVER CHARGE INDICATE} (oc), 13 STATE LEVEL CONTROL (oc), 14 TRICKLE BIAS (out), 15 CHARGE ENABLE (in), 16 N/C, 17 VOLTAGE SENSE (in), 18 COMPENSATION, 19 DRIVER SOURCE, 20 DRIVER SINK

## UC3906QG3
designator U?
Linear Lead-Acid Battery Charger, -20 to 70 degC, 20-pin PLCC (FN), Green (RoHS & no Sb/Br); PartNumber: UC3906QG3; Manufacturer: Texas Instruments; Lead Acid: Y; Li-Ion: N; SubFamily: Battery Charge Management; DatasheetVersion: SLUS186C; PackageVersion: revB, Mar-1995; PackageReference: FN20; PackageDescription: 20-Pin Plastic Leaded Chip Carrier, 1.27 mm Pitch; Supplier 1: Digi-Key; Supplier Part Number 1: UC3906QG3-ND; Supplier 2: Newark; Supplier Part Number 2: 27M2912; Supplier 3: Mouser; Supplier Part Number 3: 595-UC3906QG3; Eco-Plan: Green (RoHS & no Sb/Br); Li-Polymer: N; NiCd: N; NiMH: N; Over Voltage Protection: N; Mounting Technology: Surface Mount; Code_JEDEC: MS-018; ComponentLink1Description: Datasheet; ComponentLink1URL: http://www.ti.com/general/docs/lit/getliterature.tsp?genericPartNumber=UC3906&fileType=pdf
footprint FN20_N (Leaded Chip Carrier, 20-Leads, Body 9x9mm, Pitch 1.27mm, IPC Medium Density)
footprint FN20_L (Leaded Chip Carrier, 20-Leads, Body 9x9mm, Pitch 1.27mm, IPC High Density)
footprint FN20_M (Leaded Chip Carrier, 20-Leads, Body 9x9mm, Pitch 1.27mm, IPC Low Density)
pins: 1 N/C, 2 C/S OUT (out), 3 C/S- (in), 4 C/S+ (in), 5 C/L (in), 6 N/C, 7 +VIN (power), 8 GROUND (power), 9 ~{POWER INDICATE} (oc), 10 OVER CHARGE TERMINATE (in), 11 N/C, 12 ~{OVER CHARGE INDICATE} (oc), 13 STATE LEVEL CONTROL (oc), 14 TRICKLE BIAS (out), 15 CHARGE ENABLE (in), 16 N/C, 17 VOLTAGE SENSE (in), 18 COMPENSATION, 19 DRIVER SOURCE, 20 DRIVER SINK

## UC3906QTR
designator U?
Linear Lead-Acid Battery Charger, -20 to 70 degC, 20-pin PLCC (FN), Green (RoHS & no Sb/Br); PartNumber: UC3906QTR; Manufacturer: Texas Instruments; Lead Acid: Y; Li-Ion: N; SubFamily: Battery Charge Management; DatasheetVersion: SLUS186C; PackageVersion: revB, Mar-1995; PackageReference: FN20; PackageDescription: 20-Pin Plastic Leaded Chip Carrier, 1.27 mm Pitch; Supplier 1: Digi-Key; Supplier Part Number 1: UC3906QTR-ND; Supplier 2: Newark; Supplier Part Number 2: 77C3471; Supplier 3: Mouser; Supplier Part Number 3: 595-UC3906QTR; Eco-Plan: Green (RoHS & no Sb/Br); Li-Polymer: N; NiCd: N; NiMH: N; Over Voltage Protection: N; Mounting Technology: Surface Mount; Code_JEDEC: MS-018; ComponentLink1Description: Datasheet; ComponentLink1URL: http://www.ti.com/general/docs/lit/getliterature.tsp?genericPartNumber=UC3906&fileType=pdf
footprint FN20_N (Leaded Chip Carrier, 20-Leads, Body 9x9mm, Pitch 1.27mm, IPC Medium Density)
footprint FN20_L (Leaded Chip Carrier, 20-Leads, Body 9x9mm, Pitch 1.27mm, IPC High Density)
footprint FN20_M (Leaded Chip Carrier, 20-Leads, Body 9x9mm, Pitch 1.27mm, IPC Low Density)
pins: 1 N/C, 2 C/S OUT (out), 3 C/S- (in), 4 C/S+ (in), 5 C/L (in), 6 N/C, 7 +VIN (power), 8 GROUND (power), 9 ~{POWER INDICATE} (oc), 10 OVER CHARGE TERMINATE (in), 11 N/C, 12 ~{OVER CHARGE INDICATE} (oc), 13 STATE LEVEL CONTROL (oc), 14 TRICKLE BIAS (out), 15 CHARGE ENABLE (in), 16 N/C, 17 VOLTAGE SENSE (in), 18 COMPENSATION, 19 DRIVER SOURCE, 20 DRIVER SINK

## UC3906QTRG3
designator U?
Linear Lead-Acid Battery Charger, -20 to 70 degC, 20-pin PLCC (FN), Green (RoHS & no Sb/Br); PartNumber: UC3906QTRG3; Manufacturer: Texas Instruments; Lead Acid: Y; Li-Ion: N; SubFamily: Battery Charge Management; DatasheetVersion: SLUS186C; PackageVersion: revB, Mar-1995; PackageReference: FN20; PackageDescription: 20-Pin Plastic Leaded Chip Carrier, 1.27 mm Pitch; Supplier 1: Digi-Key; Supplier Part Number 1: UC3906QTRG3-ND; Supplier 2: Mouser; Supplier Part Number 2: 595-UC3906QTRG3; Eco-Plan: Green (RoHS & no Sb/Br); Li-Polymer: N; NiCd: N; NiMH: N; Over Voltage Protection: N; Mounting Technology: Surface Mount; Code_JEDEC: MS-018; ComponentLink1Description: Datasheet; ComponentLink1URL: http://www.ti.com/general/docs/lit/getliterature.tsp?genericPartNumber=UC3906&fileType=pdf
footprint FN20_N (Leaded Chip Carrier, 20-Leads, Body 9x9mm, Pitch 1.27mm, IPC Medium Density)
footprint FN20_L (Leaded Chip Carrier, 20-Leads, Body 9x9mm, Pitch 1.27mm, IPC High Density)
footprint FN20_M (Leaded Chip Carrier, 20-Leads, Body 9x9mm, Pitch 1.27mm, IPC Low Density)
pins: 1 N/C, 2 C/S OUT (out), 3 C/S- (in), 4 C/S+ (in), 5 C/L (in), 6 N/C, 7 +VIN (power), 8 GROUND (power), 9 ~{POWER INDICATE} (oc), 10 OVER CHARGE TERMINATE (in), 11 N/C, 12 ~{OVER CHARGE INDICATE} (oc), 13 STATE LEVEL CONTROL (oc), 14 TRICKLE BIAS (out), 15 CHARGE ENABLE (in), 16 N/C, 17 VOLTAGE SENSE (in), 18 COMPENSATION, 19 DRIVER SOURCE, 20 DRIVER SINK

## UC3909DW
designator U?
Switch-Mode Lead-Acid Battery Charger with Differential Current Sense, -20 to 70 degC, 20-pin SOIC (DW), Green (RoHS & no Sb/Br); PartNumber: UC3909DW; Manufacturer: Texas Instruments; Lead Acid: Y; Li-Ion: N; SubFamily: Battery Charge Management; PackageVersion: revG, Jan-2011; PackageReference: DW20; PackageDescription: 20-Pin Plastic Small Outline Integrated Circuit, 12.8 x 7.5 mm, Pitch 1.27 mm Pitch; Supplier 1: Digi-Key; Supplier Part Number 1: 296-11345-5-ND; Supplier 2: Newark; Supplier Part Number 2: 77C3475; Supplier 3: Mouser; Supplier Part Number 3: 595-UC3909DW; Eco-Plan: Green (RoHS & no Sb/Br); Li-Polymer: N; NiCd: N; NiMH: N; Over Voltage Protection: N; Mounting Technology: Surface Mount; Code_JEDEC: MS-013-AC; ComponentLink1Description: Datasheet; ComponentLink1URL: http://www.ti.com/general/docs/lit/getliterature.tsp?genericPartNumber=UC3909&fileType=pdf
footprint DW20_N (SOIC, 20-Leads, Body 12.8x7.5mm, Pitch 1.27mm, IPC Medium Density)
footprint DW20_L (SOIC, 20-Leads, Body 12.8x7.5mm, Pitch 1.27mm, IPC High Density)
footprint DW20_M (SOIC, 20-Leads, Body 12.8x7.5mm, Pitch 1.27mm, IPC Low Density)
pins: 1 RTHM (in) "A 10k thermistor is connected to ground and is thermally connected to the battery. The resistance will vary exponentially over temperature and its change is used to vary the internal 2.3V reference by -3.9mV/degreesC. The (See Datasheet)", 2 VLOGIC "The precision reference voltage. It should be bypassed with a 0.1uF capacitor.", 3 GND (power) "The reference point for the internal reference, all thresholds, and the return for the remainder of the device. The output sink transistor is wired directly to this pin.", 4 VCC (power) "The input voltage to the chip. The chip is operational between 7.5V and 40V and should be bypassed with a 1uF capacitor. A typical ICC vs. temperature is shown in Figure 1.", 5 OUT (power) "The output of the PWM driver which consists of  an open collector output transistor with 100mA sink capability.", 6 STAT1 (oc) "This open collector pin is the second decode bit sed to decode the charge states.", 7 STAT0 (oc) "This open collector pin is the first decode bit used to decode the charge states.", 8 STATLV (oc) "This bit is high when the charger is in the float state.", 9 OVCTAP (in) "The overcharge current taper pin detects when the output current has tapered to the float threshold in the overcharge state.", 10 CHGENB (in) "The input to a comparator that detects when battery voltage is low and places the charger in a trickle charge state. The charge enable comparator makes the output of the voltage error amplifier a high impedance while forcing (See Datasheet)", 11 VAO (hiz) "The output of the voltage error amplifier. The upper output clamp voltage of this amplifier is 5V.", 12 VA- (in) "The inverting input to the voltage error amplifier.", 13 CA- (in) "The inverting input to the current error amplifier.", 14 CAO (out) "The output of the current error amplifier which is internally clamped to approximately 4V. It is internally connected to the inverting input of the PWM comparator.", 15 CSO (out) "The output of the current sense amplifier which is internally clamped to approximately 5.7V.", 16 CS+ (in) "The inverting and non-inverting inputs to the current sense amplifier. This amplifier has a fixed gain of five and a common-mode voltage range of from -250mV to +VCC.", 17 CS- (in) "The inverting and non-inverting inputs to the current sense amplifier. This amplifier has a fixed gain of five and a common-mode voltage range of from -250mV to +VCC.", 18 RSET (in) "A resistor to ground programs the oscillator charge current and the trickle control current for the oscillator ramp.The oscillator charge current is approximately 1.75 / RSET. The trickle control current (ITRCK_CONTROL) is (See Datasheet)", 19 OSC "The oscillator ramp pin which has a capacitor (CT) to ground. The ramp oscillates between approximately 1.0V to 3.0V and the frequency is approximated by:frequency=1 / (1.2*CT*Rset)", 20 R10 (in) "Input used to establish a differential voltage corresponding to the temperature of the thermistor. Connect a 10k resistor to ground from this point."

## UC3909DWG4
designator U?
Switch-Mode Lead-Acid Battery Charger with Differential Current Sense, -20 to 70 degC, 20-pin SOIC (DW), Green (RoHS & no Sb/Br); PartNumber: UC3909DWG4; Manufacturer: Texas Instruments; Lead Acid: Y; Li-Ion: N; SubFamily: Battery Charge Management; PackageVersion: revG, Jan-2011; PackageReference: DW20; PackageDescription: 20-Pin Plastic Small Outline Integrated Circuit, 12.8 x 7.5 mm, Pitch 1.27 mm Pitch; Supplier 1: Digi-Key; Supplier Part Number 1: UC3909DWG4-ND; Supplier 2: Newark; Supplier Part Number 2: 58K7141; Supplier 3: Mouser; Supplier Part Number 3: 595-UC3909DWG4; Eco-Plan: Green (RoHS & no Sb/Br); Li-Polymer: N; NiCd: N; NiMH: N; Over Voltage Protection: N; Mounting Technology: Surface Mount; Code_JEDEC: MS-013-AC; ComponentLink1Description: Datasheet; ComponentLink1URL: http://www.ti.com/general/docs/lit/getliterature.tsp?genericPartNumber=UC3909&fileType=pdf
footprint DW20_N (SOIC, 20-Leads, Body 12.8x7.5mm, Pitch 1.27mm, IPC Medium Density)
footprint DW20_L (SOIC, 20-Leads, Body 12.8x7.5mm, Pitch 1.27mm, IPC High Density)
footprint DW20_M (SOIC, 20-Leads, Body 12.8x7.5mm, Pitch 1.27mm, IPC Low Density)
pins: 1 RTHM (in) "A 10k thermistor is connected to ground and is thermally connected to the battery. The resistance will vary exponentially over temperature and its change is used to vary the internal 2.3V reference by -3.9mV/degreesC. The (See Datasheet)", 2 VLOGIC "The precision reference voltage. It should be bypassed with a 0.1uF capacitor.", 3 GND (power) "The reference point for the internal reference, all thresholds, and the return for the remainder of the device. The output sink transistor is wired directly to this pin.", 4 VCC (power) "The input voltage to the chip. The chip is operational between 7.5V and 40V and should be bypassed with a 1uF capacitor. A typical ICC vs. temperature is shown in Figure 1.", 5 OUT (power) "The output of the PWM driver which consists of  an open collector output transistor with 100mA sink capability.", 6 STAT1 (oc) "This open collector pin is the second decode bit sed to decode the charge states.", 7 STAT0 (oc) "This open collector pin is the first decode bit used to decode the charge states.", 8 STATLV (oc) "This bit is high when the charger is in the float state.", 9 OVCTAP (in) "The overcharge current taper pin detects when the output current has tapered to the float threshold in the overcharge state.", 10 CHGENB (in) "The input to a comparator that detects when battery voltage is low and places the charger in a trickle charge state. The charge enable comparator makes the output of the voltage error amplifier a high impedance while forcing (See Datasheet)", 11 VAO (hiz) "The output of the voltage error amplifier. The upper output clamp voltage of this amplifier is 5V.", 12 VA- (in) "The inverting input to the voltage error amplifier.", 13 CA- (in) "The inverting input to the current error amplifier.", 14 CAO (out) "The output of the current error amplifier which is internally clamped to approximately 4V. It is internally connected to the inverting input of the PWM comparator.", 15 CSO (out) "The output of the current sense amplifier which is internally clamped to approximately 5.7V.", 16 CS+ (in) "The inverting and non-inverting inputs to the current sense amplifier. This amplifier has a fixed gain of five and a common-mode voltage range of from -250mV to +VCC.", 17 CS- (in) "The inverting and non-inverting inputs to the current sense amplifier. This amplifier has a fixed gain of five and a common-mode voltage range of from -250mV to +VCC.", 18 RSET (in) "A resistor to ground programs the oscillator charge current and the trickle control current for the oscillator ramp.The oscillator charge current is approximately 1.75 / RSET. The trickle control current (ITRCK_CONTROL) is (See Datasheet)", 19 OSC "The oscillator ramp pin which has a capacitor (CT) to ground. The ramp oscillates between approximately 1.0V to 3.0V and the frequency is approximated by:frequency=1 / (1.2*CT*Rset)", 20 R10 (in) "Input used to establish a differential voltage corresponding to the temperature of the thermistor. Connect a 10k resistor to ground from this point."